# EAGLE library part DIP_SWITCH_3 (library Bauteile)
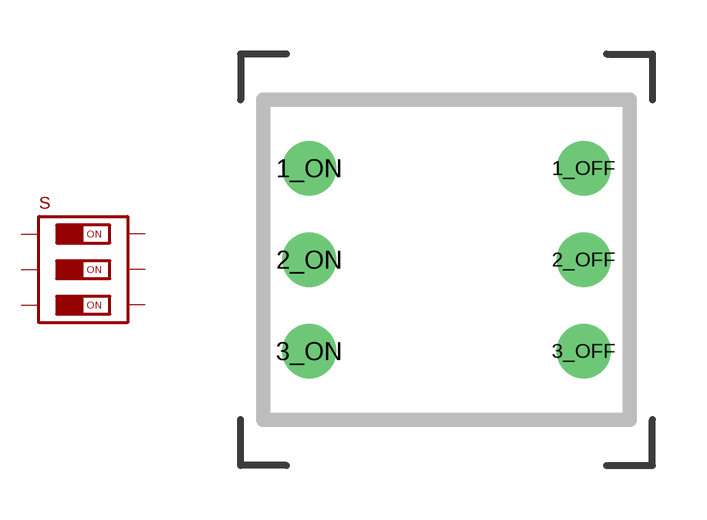
[diagram p3: symbol with the pads of SWITCH_3_DIP; footprint SWITCH_3_DIP]

Designator prefix S

## DIP_SWITCH_3(DIP)  [SWITCH_3_DIP]
1_OFF  1_OFF
1_ON  1_ON
2_OFF  2_OFF
2_ON  2_ON
3_OFF  3_OFF
3_ON  3_ON

## Footprint SWITCH_3_DIP (pad centres in mm)
drill 1: 1_OFF 3.81,2.54; 1_ON -3.81,2.54; 2_OFF 3.81,0; 2_ON -3.81,0; 3_OFF 3.81,-2.54; 3_ON -3.81,-2.54